# EAGLE library part ERF8-013-XX-X-D-RA (library con-samtec-er8)
ERF8 Series - Female Right Angle Edge Mount
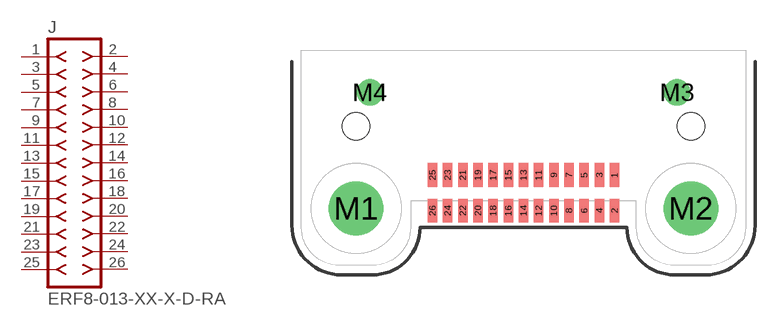
[diagram p32: symbol with the pads of ERF8-013-XX-X-D-RA; footprint ERF8-013-XX-X-D-RA]

Designator prefix J

## ERF8-013-XX-X-D-RA  [ERF8-013-XX-X-D-RA]
1  1  pas
2  2  pas
3  3  pas
4  4  pas
5  5  pas
6  6  pas
7  7  pas
8  8  pas
9  9  pas
10  10  pas
11  11  pas
12  12  pas
13  13  pas
14  14  pas
15  15  pas
16  16  pas
17  17  pas
18  18  pas
19  19  pas
20  20  pas
21  21  pas
22  22  pas
23  23  pas
24  24  pas
25  25  pas
26  26  pas

## Footprint ERF8-013-XX-X-D-RA (pad centres in mm)
0.8mm Edge Rate Terminal Assembly FEMALE, Double Row Right Angle, 13 Position
smd 0.5 x 1.25: 1 4.8,0.94; 2 4.8,-0.94; 3 4,0.94; 4 4,-0.94; 5 3.2,0.94; 6 3.2,-0.94; 7 2.4,0.94; 8 2.4,-0.94; 9 1.6,0.94; 10 1.6,-0.94; 11 0.8,0.94; 12 0.8,-0.94; 13 0,0.94; 14 0,-0.94; 15 -0.8,0.94; 16 -0.8,-0.94; 17 -1.6,0.94; 18 -1.6,-0.94; 19 -2.4,0.94; 20 -2.4,-0.94; 21 -3.2,0.94; 22 -3.2,-0.94; 23 -4,0.94; 24 -4,-0.94; 25 -4.8,0.94; 26 -4.8,-0.94
drill 1.905 pad 2.41: M1 -8.825,-0.835; M2 8.825,-0.835
drill 0.63 pad 1.4: M3 8.1,5.295; M4 -8.1,5.295
hole 1.45 at -8.825,3.515
hole 1.45 at 8.825,3.515